# Altium footprint library LQH44P_FootPrint.PcbLib: 1 footprints
Each footprint in its own frame and in the unit in brackets; x right, y up, seen from the top. Pads: shape width x height; smd on the part's side, far side on the other; paste and mask are expansions set on the pad; w line width, h text height; cw(c..) or ccw(c..) is an arc to the next point about the centre after c.
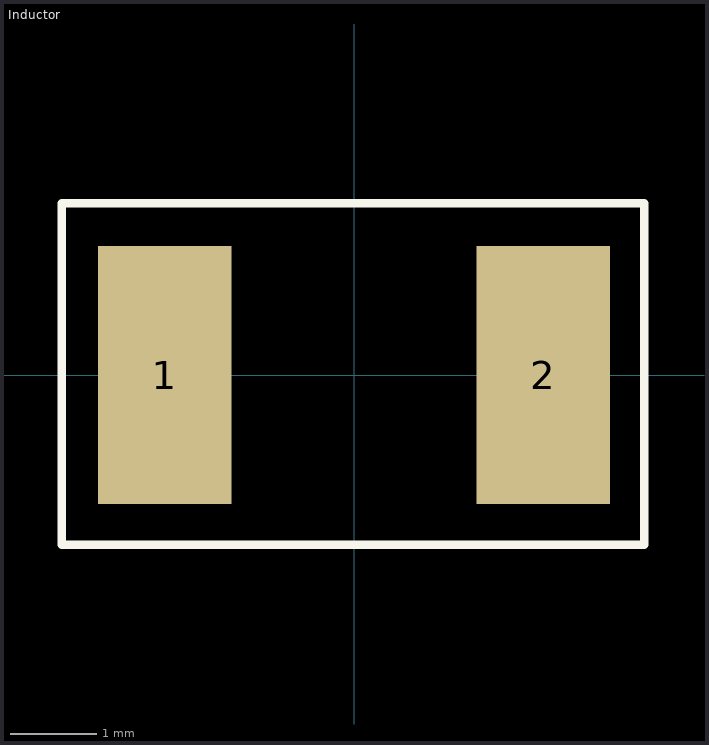
[diagram p0: the footprint, top view; thin cyan lines are the x and y axes]

## Inductor [mm]
pads (2):
  rect 1.55x3 smd: 1(-2.2,0) 2(2.2,0)
Top Overlay:
  lines w0.1: -3.4,-1.975 -3.4,2 3.375,2 3.375,-1.975 -3.4,-1.975